# Altium integrated library OPA2320AIDGKR.IntLib: 1 symbol
Pins are listed as number, name and electrical type; pins without a type are passive.

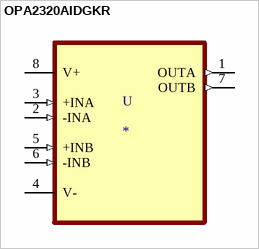
[diagram p0: symbol OPA2320AIDGKR]

## OPA2320AIDGKR
designator U
General Purpose Amplifier 2 Circuit Rail-to-Rail 8-VSSOP; MP: OPA2320AIDGKR; MF: Texas Instruments; DigiKey-Purchase-URL: https://snapeda.com/shop?store=DigiKey&id=588542; Value: *; Availability: Unavailable; Package: MSOP-8 Texas Instruments; SnapEDA_Link: https://www.snapeda.com/parts/OPA2320AIDGKR/Texas%20Instruments/view-part/588542/?ref=snap; Price: None
footprint SOP65P490X110-8N
pins: 1 OUTA (out), 2 -INA (in), 3 +INA (in), 4 V- (power), 5 +INB (in), 6 -INB (in), 7 OUTB (out), 8 V+ (power)